# EAGLE library part UC3842 (library __MyCommonLib1)
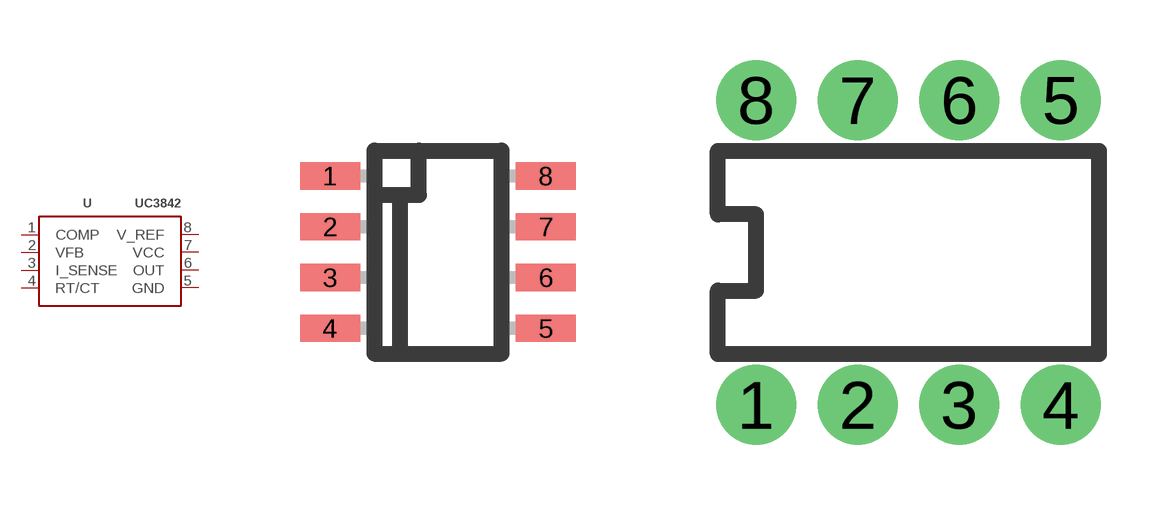
[diagram p21: symbol with the pads of SOIC8; footprints SOIC8, DIP8]

Designator prefix -

## UC3842SOIC8  [SOIC8]
1  COMP
2  VFB
3  I_SENSE
4  RT/CT
5  GND
6  OUT
7  VCC
8  V_REF

## UC3842DIP8  [DIP8]
Pads as for SOIC8

## Footprint SOIC8 (pad centres in mm)
smd 1.5 x 0.68: 1 -2.699,1.905; 2 -2.699,0.635; 3 -2.699,-0.635; 4 -2.699,-1.905; 5 2.699,-1.905; 6 2.699,-0.635; 7 2.699,0.635; 8 2.699,1.905

## Footprint DIP8 (pad centres in mm)
drill 0.9 pad 2: 1 -3.81,-3.81; 2 -1.27,-3.81; 3 1.27,-3.81; 4 3.81,-3.81; 5 3.81,3.81; 6 1.27,3.81; 7 -1.27,3.81; 8 -3.81,3.81